# Altium footprint library SamacSys.PcbLib: 15 footprints
Each footprint in its own frame and in the unit in brackets; x right, y up, seen from the top. Pads: shape width x height; smd on the part's side, far side on the other; paste and mask are expansions set on the pad; w line width, h text height; cw(c..) or ccw(c..) is an arc to the next point about the centre after c.
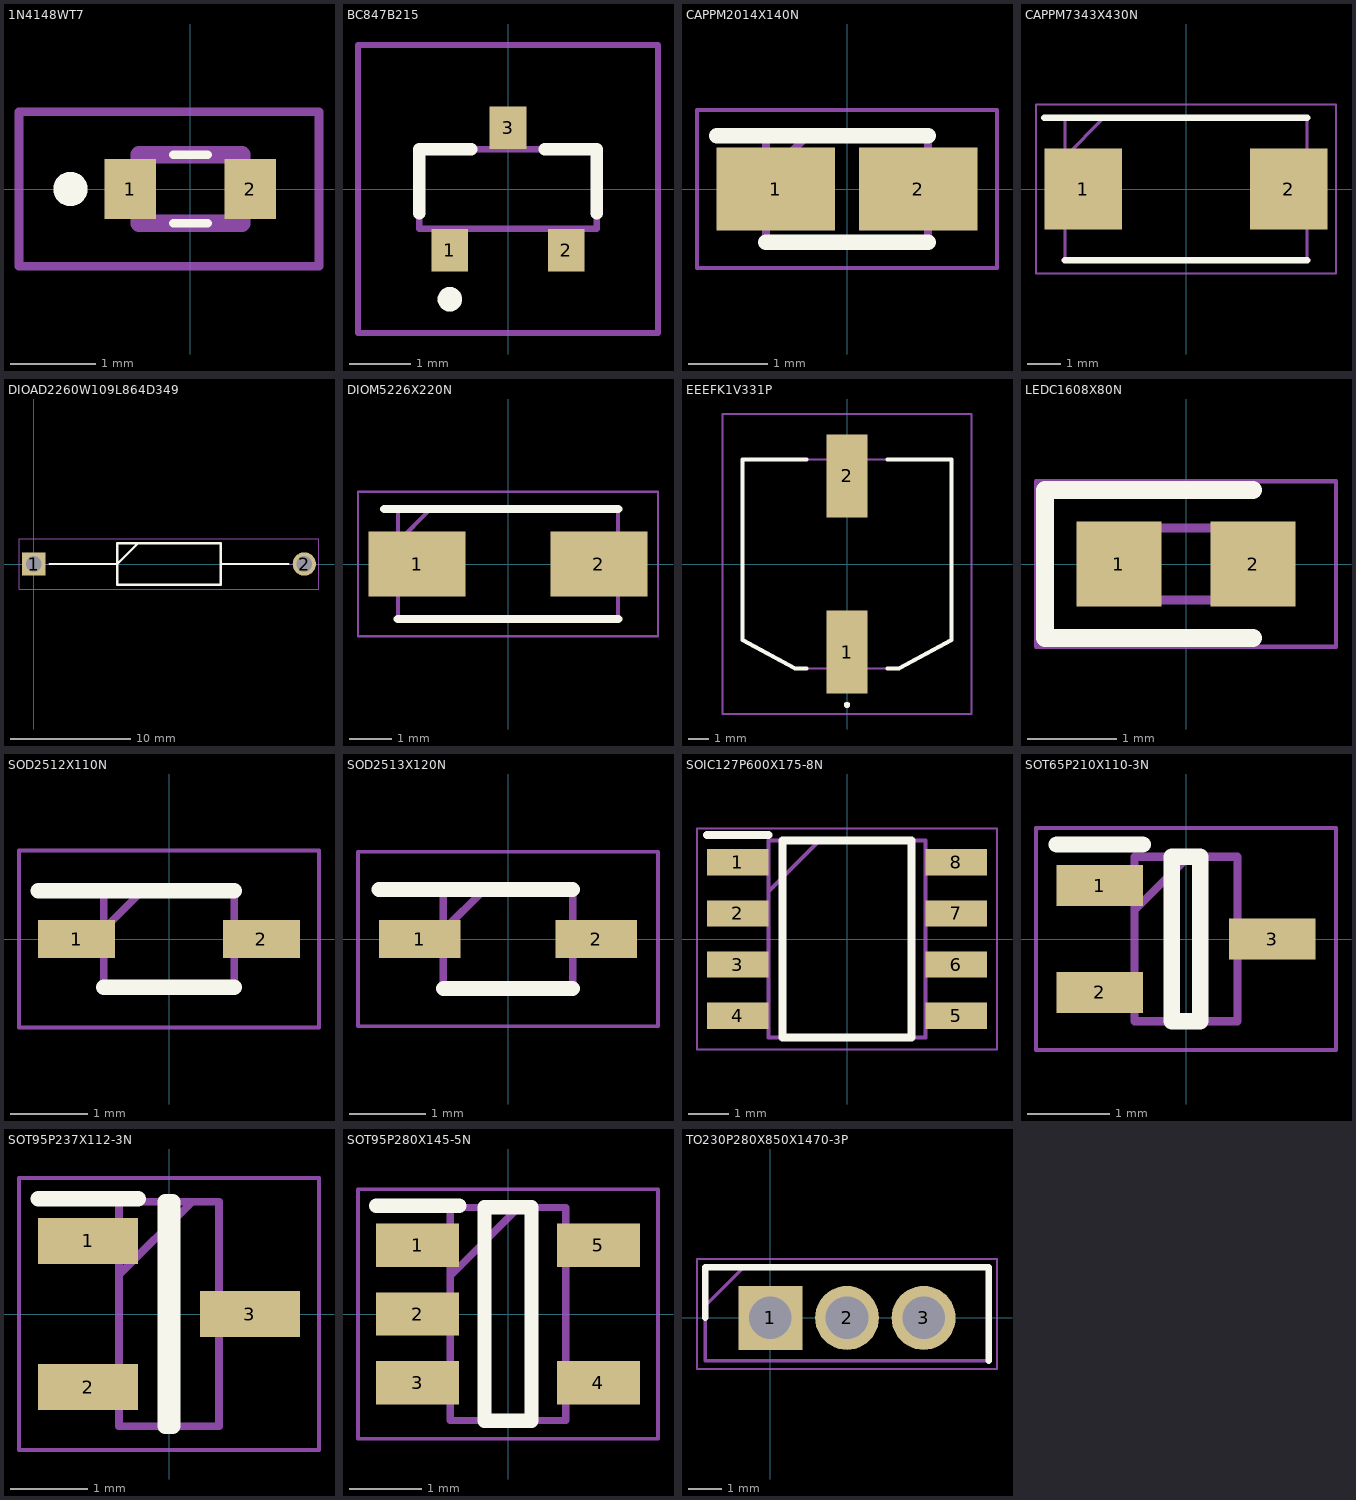
[diagram p0: the footprints below, top view; thin cyan lines are the x and y axes]

## 1N4148WT7 [mm]
pads (2):
  rect 0.6x0.7 smd: 1(-0.7,0) 2(0.7,0)
Top Overlay:
  lines w0.1: -0.2,-0.4 0.2,-0.4 ; -0.2,0.4 0.2,0.4
  lines w0.2: -1.4,-0.1 cw(c-1.4,0) -1.4,0.1 cw(c-1.4,0) -1.4,-0.1
Mechanical 13:
  lines w0.2: -0.6,-0.4 -0.6,0.4 0.6,0.4 0.6,-0.4 -0.6,-0.4
Mechanical 15:
  lines w0.1: -2,-0.9 -2,0.9 1.5,0.9 1.5,-0.9 -2,-0.9
3D body "1N4148WT-7.stp": height 0.7, standoff 0, extent -0.85,-0.45 0.85,0.45

## BC847B215 [mm]
pads (3):
  rect 0.6x0.7 smd: 1(-0.95,-1) 2(0.95,-1) 3(0,1)
Top Overlay:
  lines w0.2: -1.45,-0.4 -1.45,0.65 -0.6,0.65 ; 0.6,0.65 1.45,0.65 1.45,-0.4 ; -1.05,-1.8 ccw(c-0.95,-1.8) -0.85,-1.8 ccw(c-0.95,-1.8) -1.05,-1.8
Mechanical 13:
  lines w0.1: -1.45,-0.65 1.45,-0.65 1.45,0.65 -1.45,0.65 -1.45,-0.65
Mechanical 15:
  lines w0.1: -2.45,-2.35 2.45,-2.35 2.45,2.35 -2.45,2.35 -2.45,-2.35
3D body "BC847B,215.stp": height 0.95, standoff 0, extent -1.452,-1.201 1.448,1.199

## CAPPM2014X140N [mm]
pads (2):
  rect 1.5x1.05 smd: 1(-0.9,0) 2(0.9,0)
Top Overlay:
  lines w0.2: -1.65,0.675 1.025,0.675 ; -1.025,-0.675 1.025,-0.675
Mechanical 13:
  lines w0.1: -1.025,0.15 -0.5,0.675 ; -1.025,-0.675 -1.025,0.675 1.025,0.675 1.025,-0.675 -1.025,-0.675
Mechanical 15:
  lines w0.05: -1.9,-1 -1.9,1 1.9,1 1.9,-1 -1.9,-1
3D body "TLJR476M010R3200.stp": height 1.4, standoff 0, extent -1.025,-0.675 1.025,0.675

## CAPPM7343X430N [mm]
pads (2):
  rect 2.35x2.45 smd: 1(-3.1,0) 2(3.1,0)
Top Overlay:
  lines w0.2: -4.275,2.15 3.65,2.15 ; -3.65,-2.15 3.65,-2.15
Mechanical 13:
  lines w0.1: -3.65,0.975 -2.475,2.15 ; -3.65,-2.15 -3.65,2.15 3.65,2.15 3.65,-2.15 -3.65,-2.15
Mechanical 15:
  lines w0.05: -4.525,-2.55 -4.525,2.55 4.525,2.55 4.525,-2.55 -4.525,-2.55
3D body "293D106X9050E2TE3.stp": height 4.12, standoff 0, extent -3.59,-2.349 3.598,2.345

## DIOAD2260W109L864D349 [mm]
pads (2):
  rect 1.95x1.95 hole 1.3: 1(0,0)
  round 1.95 hole 1.3: 2(22.6,0)
Top Overlay:
  lines w0.2: 1.325,0 6.982,0 8.728,1.745 ; 15.618,0 21.275,0 ; 6.982,-1.745 6.982,1.745 15.618,1.745 15.618,-1.745 6.982,-1.745
Mechanical 13:
  lines w0.1: 0,0 6.982,0 8.727,1.745 ; 15.618,0 22.6,0 ; 6.982,-1.745 6.982,1.745 15.617,1.745 15.617,-1.745 6.982,-1.745
Mechanical 15:
  lines w0.05: -1.225,-2.095 -1.225,2.095 23.825,2.095 23.825,-2.095 -1.225,-2.095
3D body "1N5349BRLG.stp": height 3.68, standoff -3.68, extent -0.541,-1.84 23.14,1.84

## DIOM5226X220N [mm]
pads (2):
  rect 2.3x1.55 smd: 1(-2.15,0) 2(2.15,0)
Top Overlay:
  lines w0.2: -2.925,1.302 2.605,1.302 ; -2.605,-1.302 2.605,-1.302
Mechanical 13:
  lines w0.1: -2.605,0.528 -1.83,1.302 ; -2.605,-1.302 2.605,-1.302 2.605,1.302 -2.605,1.302 -2.605,-1.302
Mechanical 15:
  lines w0.05: -3.55,-1.71 3.55,-1.71 3.55,1.71 -3.55,1.71 -3.55,-1.71
3D body "SS16T3G.stp": height 2.2, standoff 0, extent -2.605,-1.302 2.605,1.302

## EEEFK1V331P [mm]
pads (2):
  rect 2x4.1 smd: 1(0,-4.35) 2(0,4.35)
Top Overlay:
  lines w0.2: -2,-5.15 -2.575,-5.15 -5.15,-3.75 -5.15,5.15 -2,5.15 ; 2,-5.15 2.575,-5.15 5.15,-3.75 5.15,5.15 2,5.15 ; 0,-7 cw(c0,-6.95) 0,-6.9 ; 0,-7 ccw(c0,-6.95) 0,-6.9 ; 0,-7 cw(c0,-6.95) 0,-6.9
Mechanical 13:
  lines w0.1: -5.15,-3.75 -5.15,5.15 5.15,5.15 5.15,-3.75 2.575,-5.15 -2.575,-5.15 -5.15,-3.75
Mechanical 15:
  lines w0.1: -6.15,-7.4 6.15,-7.4 6.15,7.4 -6.15,7.4 -6.15,-7.4
3D body "EEE1HA101AP.stp": height 10.3, standoff 0.1, extent -5.15,-5.85 5.15,5.85

## LEDC1608X80N [mm]
pads (2):
  rect 0.95x0.95 smd: 1(-0.75,0) 2(0.75,0)
Top Overlay:
  lines w0.2: 0.75,-0.825 -1.575,-0.825 -1.575,0.825 0.75,0.825
Mechanical 13:
  lines w0.1: -0.8,0.133 -0.533,0.4 ; -0.8,-0.4 -0.8,0.4 0.8,0.4 0.8,-0.4 -0.8,-0.4
Mechanical 15:
  lines w0.05: -1.675,-0.925 -1.675,0.925 1.675,0.925 1.675,-0.925 -1.675,-0.925
3D body "150060RS75000.stp": height 0.7, standoff 0, extent -0.8,-0.4 0.8,0.4

## SOD2512X110N [mm]
pads (2):
  rect 1x0.5 smd: 1(-1.2,0) 2(1.2,0)
Top Overlay:
  lines w0.2: -1.7,0.625 0.85,0.625 ; -0.85,-0.625 0.85,-0.625
Mechanical 13:
  lines w0.1: -0.85,0.125 -0.35,0.625 ; -0.85,-0.625 0.85,-0.625 0.85,0.625 -0.85,0.625 -0.85,-0.625
Mechanical 15:
  lines w0.05: -1.95,-1.15 1.95,-1.15 1.95,1.15 -1.95,1.15 -1.95,-1.15
3D body "MM3Z5V1ST1G.stp": height 1.1, standoff 0, extent -1.25,-0.625 1.25,0.625

## SOD2513X120N [mm]
pads (2):
  rect 1.075x0.5 smd: 1(-1.162,0) 2(1.162,0)
Top Overlay:
  lines w0.2: -1.7,0.65 0.85,0.65 ; -0.85,-0.65 0.85,-0.65
Mechanical 13:
  lines w0.1: -0.85,0.112 -0.312,0.65 ; -0.85,-0.65 0.85,-0.65 0.85,0.65 -0.85,0.65 -0.85,-0.65
Mechanical 15:
  lines w0.05: -1.975,-1.15 1.975,-1.15 1.975,1.15 -1.975,1.15 -1.975,-1.15
3D body "1N4148WS-7-F.stp": height 1.2, standoff 0, extent -1.25,-0.65 1.25,0.65

## SOIC127P600X175-8N [mm]
pads (8):
  rect 1.525x0.65 smd: 1(-2.712,1.905) 2(-2.712,0.635) 3(-2.712,-0.635) 4(-2.712,-1.905) 5(2.712,-1.905) 6(2.712,-0.635) 7(2.712,0.635) 8(2.712,1.905)
Top Overlay:
  lines w0.2: -3.475,2.58 -1.95,2.58 ; -1.6,-2.45 -1.6,2.45 1.6,2.45 1.6,-2.45 -1.6,-2.45
Mechanical 13:
  lines w0.1: -1.95,1.18 -0.68,2.45 ; -1.95,-2.45 -1.95,2.45 1.95,2.45 1.95,-2.45 -1.95,-2.45
Mechanical 15:
  lines w0.05: -3.725,-2.75 -3.725,2.75 3.725,2.75 3.725,-2.75 -3.725,-2.75
3D body "NE555DR.stp": height 1.75, standoff 0, extent -3,-2.45 3,2.45

## SOT65P210X110-3N [mm]
pads (3):
  rect 1.05x0.5 smd: 1(-1.05,0.65) 2(-1.05,-0.65) 3(1.05,0)
Top Overlay:
  lines w0.2: -1.575,1.15 -0.525,1.15 ; -0.175,-1 0.175,-1 0.175,1 -0.175,1 -0.175,-1
Mechanical 13:
  lines w0.1: -0.625,0.35 0.025,1 ; -0.625,-1 0.625,-1 0.625,1 -0.625,1 -0.625,-1
Mechanical 15:
  lines w0.05: -1.825,-1.35 1.825,-1.35 1.825,1.35 -1.825,1.35 -1.825,-1.35
3D body "ESDCAN06-2BWY.stp": height 1.1, standoff 0, extent -1.05,-1 1.05,1

## SOT95P237X112-3N [mm]
pads (3):
  rect 1.3x0.6 smd: 1(-1.05,0.95) 2(-1.05,-0.95) 3(1.05,0)
Top Overlay:
  lines w0.2: -1.7,1.5 -0.4,1.5 ; -0.05,-1.46 0.05,-1.46 0.05,1.46 -0.05,1.46 -0.05,-1.46
Mechanical 13:
  lines w0.1: -0.65,0.51 0.3,1.46 ; -0.65,-1.46 0.65,-1.46 0.65,1.46 -0.65,1.46 -0.65,-1.46
Mechanical 15:
  lines w0.05: -1.95,-1.77 1.95,-1.77 1.95,1.77 -1.95,1.77 -1.95,-1.77
3D body "IRLML6344TRPBF.stp": height 1.12, standoff 0, extent -1.185,-1.46 1.185,1.46

## SOT95P280X145-5N [mm]
pads (5):
  rect 1.15x0.6 smd: 1(-1.25,0.95) 2(-1.25,0) 3(-1.25,-0.95) 4(1.25,-0.95) 5(1.25,0.95)
Top Overlay:
  lines w0.2: -1.825,1.5 -0.675,1.5 ; -0.325,-1.475 0.325,-1.475 0.325,1.475 -0.325,1.475 -0.325,-1.475
Mechanical 13:
  lines w0.1: -0.8,0.525 0.15,1.475 ; -0.8,-1.475 0.8,-1.475 0.8,1.475 -0.8,1.475 -0.8,-1.475
Mechanical 15:
  lines w0.05: -2.075,-1.725 2.075,-1.725 2.075,1.725 -2.075,1.725 -2.075,-1.725
3D body "LDS3985M33R.stp": height 1.45, standoff 0, extent -1.4,-1.475 1.4,1.475

## TO230P280X850X1470-3P [mm]
pads (3):
  rect 1.92x1.92 hole 1.28: 1(0,0)
  round 1.92 hole 1.28: 2(2.3,0) 3(4.6,0)
Top Overlay:
  lines w0.2: -1.95,0 -1.95,1.515 6.55,1.515 6.55,-1.285
Mechanical 13:
  lines w0.1: -1.95,0.365 -0.8,1.515 ; -1.95,-1.285 -1.95,1.515 6.55,1.515 6.55,-1.285 -1.95,-1.285
Mechanical 15:
  lines w0.05: -2.2,-1.535 -2.2,1.765 6.8,1.765 6.8,-1.535 -2.2,-1.535
3D body "2SB772-AZ.stp": height 14.5, standoff -24, extent -1.95,-1.285 6.55,1.515